# EAGLE library part TPS54* (library TI)
5A Step-down converter
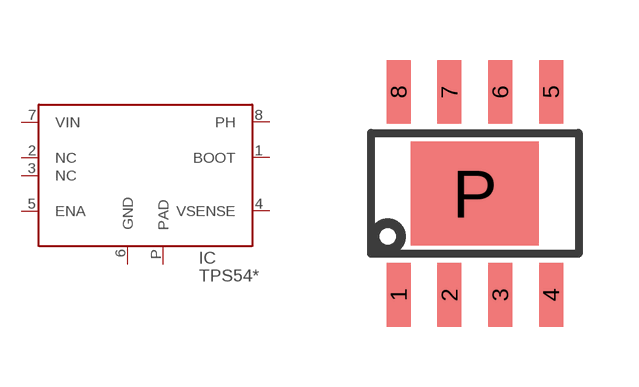
[diagram p12: symbol with the pads of SO8-P; footprint SO8-P]

Designator prefix IC

## TPS5420DDA, TPS5430DDA, TPS5450DDA  [SO8-P]
1  BOOT
2  NC  nc
3  NC  nc
4  VSENSE
5  ENA  in
6  GND  pwr
7  VIN  pwr
8  PH
P  PAD

## Footprint SO8-P (pad centres in mm)
Texas Instruments MSOP8 package, 1.27mm pitch
smd 0.6 x 1.6: 1 -1.905,-2.54; 2 -0.635,-2.54; 3 0.635,-2.54; 4 1.905,-2.54; 5 1.905,2.54; 6 0.635,2.54; 7 -0.635,2.54; 8 -1.905,2.54
smd 3.2 x 2.6: P 0,0